# Altium schematic symbol library Switches&Relays.SchLib: 4 symbols
Pins are listed as number, name and electrical type; pins without a type are passive.

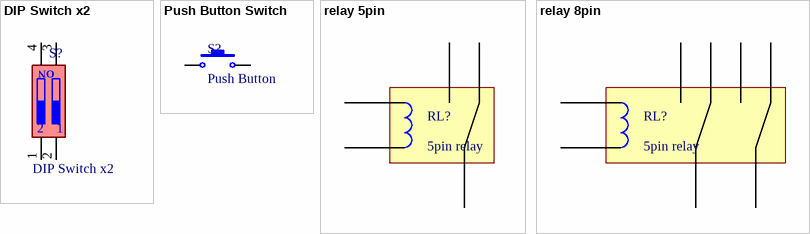
[diagram p0: symbols DIP Switch x2 to relay 8pin]

## DIP Switch x2
designator S?
Value: DIP Switch x2
footprint DIP Switch x2
pins: 1, 2, 3, 4
text: ON

## Push Button Switch
designator S?, comment Push Button
Value: Push Button
footprint Push Button Switch SMD
footprint Push Button Switch
footprint Push Button Switch 2pin
footprint Push Button Switch SMD3X6X5
pins: 1, 2

## relay 5pin
designator RL?, comment 5pin relay
Value: 5pin relay; size: *
footprint 5pin normal relay
footprint HJR-4102-L
pins: 1, 2, 3, 4, 5

## relay 8pin
designator RL?, comment 5pin relay
Value: 5pin relay; size: *
footprint 8pin normal relay
pins: 1, 2, 3, 4, 5, 6, 7, 8